# Altium footprint library CN_MVSTBW_2_5_HC_2-STF-5_08.PcbLib: 1 footprints
Each footprint in its own frame and in the unit in brackets; x right, y up, seen from the top. Pads: shape width x height; smd on the part's side, far side on the other; paste and mask are expansions set on the pad; w line width, h text height; cw(c..) or ccw(c..) is an arc to the next point about the centre after c.

## CN_MVSTBW_2_5_HC_2-STF-5_08 [mm] "1913060 MVSTBW 2,5 HC/ 2-STF-5,08"
3D body: height 10.07, standoff -2.54, extent 0.032,-0.051 20.356,25.949